# EAGLE library part TSL1401CS (library ic-ams)
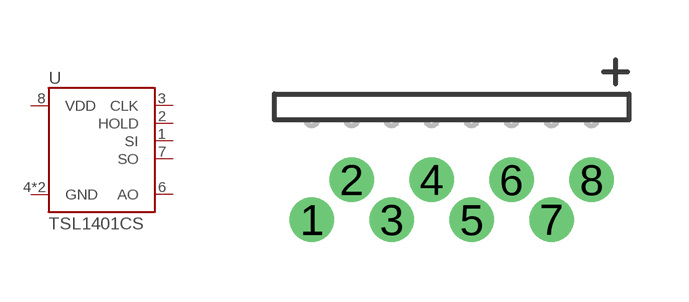
[diagram p2: symbol with the pads of TSL1401CS-RIGHT; footprint TSL1401CS-RIGHT]

Designator prefix U

## TSL1401CS-RIGHT  [TSL1401CS-RIGHT]
1  SI
2  HOLD
3  CLK
4  GND
5  GND
6  AO
7  SO
8  VDD

## Footprint TSL1401CS-RIGHT (pad centres in mm)
drill 0.6: 1 -3.5,-2.5; 2 -2.5,-1.5; 3 -1.5,-2.5; 4 -0.5,-1.5; 5 0.5,-2.5; 6 1.5,-1.5; 7 2.5,-2.5; 8 3.5,-1.5